# EAGLE library part LAN9514 (library bontor)
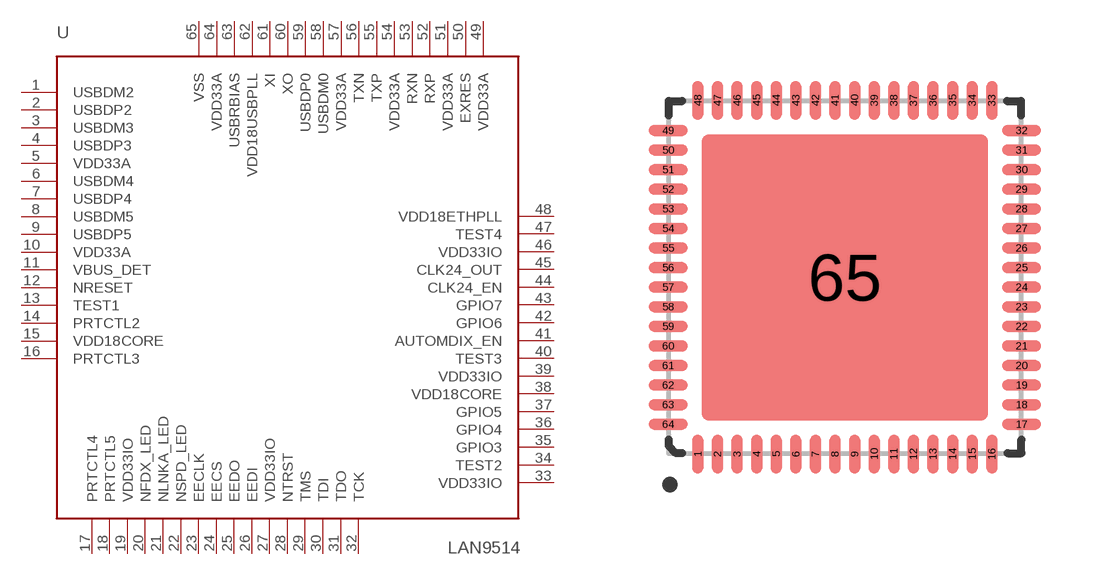
[diagram p2: symbol with the pads of QFN64; footprint QFN64]

Designator prefix -

## LAN9514  [QFN64]
1  USBDM2
2  USBDP2
3  USBDM3
4  USBDP3
5  VDD33A
6  USBDM4
7  USBDP4
8  USBDM5
9  USBDP5
10  VDD33A
11  VBUS_DET
12  NRESET
13  TEST1
14  PRTCTL2
15  VDD18CORE
16  PRTCTL3
17  PRTCTL4
18  PRTCTL5
19  VDD33IO
20  NFDX_LED
21  NLNKA_LED
22  NSPD_LED
23  EECLK
24  EECS
25  EEDO
26  EEDI
27  VDD33IO
28  NTRST
29  TMS
30  TDI
31  TDO
32  TCK
33  VDD33IO
34  TEST2
35  GPIO3
36  GPIO4
37  GPIO5
38  VDD18CORE
39  VDD33IO
40  TEST3
41  AUTOMDIX_EN
42  GPIO6
43  GPIO7
44  CLK24_EN
45  CLK24_OUT
46  VDD33IO
47  TEST4
48  VDD18ETHPLL
49  VDD33A
50  EXRES
51  VDD33A
52  RXP
53  RXN
54  VDD33A
55  TXP
56  TXN
57  VDD33A
58  USBDM0
59  USBDP0
60  XO
61  XI
62  VDD18USBPLL
63  USBRBIAS
64  VDD33A
65  VSS

## Footprint QFN64 (pad centres in mm)
smd 0.28 x 1: 1 -3.65,-4.56; 2 -3.15,-4.56; 3 -2.65,-4.56; 4 -2.15,-4.56; 5 -1.65,-4.56; 6 -1.15,-4.56; 7 -0.65,-4.56; 8 -0.15,-4.56; 9 0.35,-4.56; 10 0.85,-4.56; 11 1.35,-4.56; 12 1.85,-4.56; 13 2.35,-4.56; 14 2.85,-4.56; 15 3.35,-4.56; 16 3.85,-4.56; 33 3.85,4.47; 34 3.35,4.47; 35 2.85,4.47; 36 2.35,4.47; 37 1.85,4.47; 38 1.35,4.47; 39 0.85,4.47; 40 0.35,4.47; 41 -0.15,4.47; 42 -0.65,4.47; 43 -1.15,4.47; 44 -1.65,4.47; 45 -2.15,4.47; 46 -2.65,4.47; 47 -3.15,4.47; 48 -3.65,4.47
smd 1 x 0.28: 17 4.61,-3.8; 18 4.61,-3.3; 19 4.61,-2.8; 20 4.61,-2.3; 21 4.61,-1.8; 22 4.61,-1.3; 23 4.61,-0.8; 24 4.61,-0.3; 25 4.61,0.2; 26 4.61,0.7; 27 4.61,1.2; 28 4.61,1.7; 29 4.61,2.2; 30 4.61,2.7; 31 4.61,3.2; 32 4.61,3.7; 49 -4.41,3.7; 50 -4.41,3.2; 51 -4.41,2.7; 52 -4.41,2.2; 53 -4.41,1.7; 54 -4.41,1.2; 55 -4.41,0.7; 56 -4.41,0.2; 57 -4.41,-0.3; 58 -4.41,-0.8; 59 -4.41,-1.3; 60 -4.41,-1.8; 61 -4.41,-2.3; 62 -4.41,-2.8; 63 -4.41,-3.3; 64 -4.41,-3.8
smd 7.3 x 7.3: 65 0.1,-0.05